# Altium footprint library Analog.PcbLib: 1 footprints
Each footprint in its own frame and in the unit in brackets; x right, y up, seen from the top. Pads: shape width x height; smd on the part's side, far side on the other; paste and mask are expansions set on the pad; w line width, h text height; cw(c..) or ccw(c..) is an arc to the next point about the centre after c.
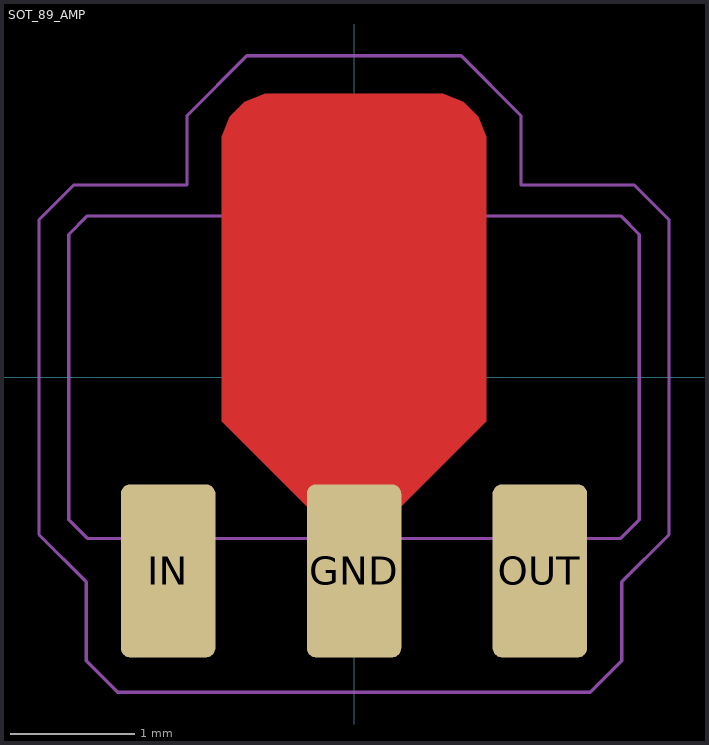
[diagram p0: the footprint, top view; thin cyan lines are the x and y axes]

## SOT_89_AMP [mil] "Example Component"
height 20
pads (3):
  rrect20% 30x55 smd paste-1 mask+2: GND(0,-61.5)
  rrect20% 30x55 smd paste-50 mask+2: IN(-59,-61.5) OUT(59,-61.5)
Top Layer:
  region: -42,73 -42,76.38 -39.41,82.63 -34.63,87.41 -28.38,90 -25,90 25,90 28.38,90 34.63,87.41 39.41,82.63 42,76.38 42,73 42,-14 13,-43 -13,-43 -42,-14
Top Paste:
  region: 73.05,-45 45.05,-45 45.05,-88 73.05,-88
  region: -45.06,-45 -73.06,-45 -73.06,-88 -45.06,-88
  rectangle: -14,-44 14,-24
  rectangle: -38,-11 38,20
  rectangle: -38,33 38,64
Top Designator:
  text ".Designator" at -127.64,-12.5 h35
Top Courtyard:
  lines w1: -100,-50 -100,50 -89,61 -53,61 -53,83 -34,102 33.99,102 52.99,83 52.99,61 88.99,61 99.99,50 99.99,-50 84.99,-65 84.99,-90 74.99,-100 -75,-100 -85,-90 -85,-65 -100,-50
Top Component Outline:
  lines w1: -90.55,-45.28 -84.65,-51.18 84.65,-51.18 90.55,-45.28 90.55,45.28 84.65,51.18 -84.65,51.18 -90.55,45.28 -90.55,-45.28 ; -68.5,-83.66 -49.61,-83.66 -49.61,-39.37 -68.5,-39.37 -68.5,-83.66 ; -36.02,-12.8 -36.02,62.99 -15.35,83.66 15.35,83.66 36.02,62.99 36.02,-12.8 9.45,-39.37 9.45,-83.66 -9.45,-83.66 -9.45,-39.37 -36.02,-12.8 ; 49.61,-83.66 68.5,-83.66 68.5,-39.37 49.61,-39.37 49.61,-83.66
3D body "SOT89.STEP": height 63.07, standoff -0.25, extent -90.55,-83.66 90.55,83.66